# Altium footprint library 0402.PcbLib: 2 footprints
Each footprint in its own frame and in the unit in brackets; x right, y up, seen from the top. Pads: shape width x height; smd on the part's side, far side on the other; paste and mask are expansions set on the pad; w line width, h text height; cw(c..) or ccw(c..) is an arc to the next point about the centre after c.
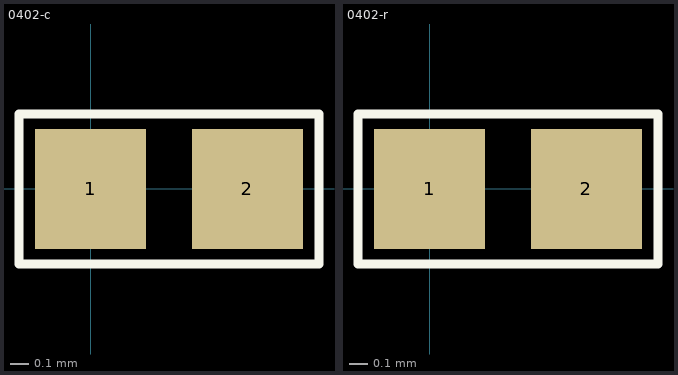
[diagram p0: the footprints below, top view; thin cyan lines are the x and y axes]

## 0402-c [mm]
pads (2):
  rect 0.6x0.65 smd mask+0.051: 1(0,0) 2(0.85,0)
Top Overlay:
  lines w0.051: -0.388,-0.406 -0.337,-0.406 1.238,-0.406 1.238,0.406 -0.388,0.406 -0.388,-0.406
3D body "0402 SMD Capacitor.step": height 0.2, standoff 0, extent -0.058,-0.3 0.943,0.3

## 0402-r [mm]
pads (2):
  rect 0.6x0.65 smd mask+0.051: 1(0,0) 2(0.85,0)
Top Overlay:
  lines w0.051: -0.388,-0.406 -0.388,0.406 -0.362,0.406 1.238,0.406 1.238,-0.406 -0.388,-0.406
3D body "User Library-RES_1005-0402.STEP": height 0.41, standoff 0, extent -0.15,-0.275 1,0.275